# Altium schematic symbol library FET_P_CHANNEL_ENH_GSD.SchLib: 1 symbol
Pins are listed as number, name and electrical type; pins without a type are passive.

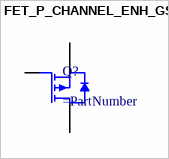
[diagram p0: symbol FET_P_CHANNEL_ENH_GSD]

## FET_P_CHANNEL_ENH_GSD
designator Q?
pins: 1 G, 2 S, 3 D